# Altium schematic symbol library Base_Library.SchLib: 4 symbols
Pins are listed as number, name and electrical type; pins without a type are passive.

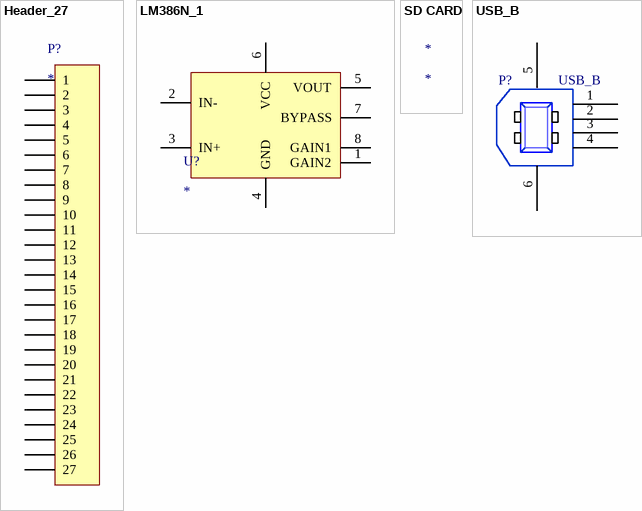
[diagram p0: symbols Header_27 to USB_B]

## Header_27
designator P?
Value: None
footprint Header 27 PCB (Heades de 27 pines una fila)
pins: 1, 2, 3, 4, 5, 6, 7, 8, 9, 10, 11, 12, 13, 14, 15, 16, 17, 18, 19, 20, 21, 22, 23, 24, 25, 26, 27

## LM386N_1
designator U?
Value: None
footprint LM386
pins: 1 GAIN2, 2 IN-, 3 IN+, 4 GND, 5 VOUT, 6 VCC, 7 BYPASS, 8 GAIN1

## SD CARD
designator *

## USB_B
designator P?
CONECTOR USB TIPO B ANG RECTO DIP; Manufacturer: AG ELECTRONICA; Num Part: USBB/F90_DIP; Value: none
footprint USB_B (CONECTOR USB TIPO B ANG RECTO DIP)
pins: 1 VCC, 2 DATA-, 3 DATA+, 4 GND, 5 GND, 6 GND